# Altium footprint library 453lib.PcbLib: 22 footprints (part 1 of 2)
Each footprint in its own frame and in the unit in brackets; x right, y up, seen from the top. Pads: shape width x height; smd on the part's side, far side on the other; paste and mask are expansions set on the pad; w line width, h text height; cw(c..) or ccw(c..) is an arc to the next point about the centre after c.
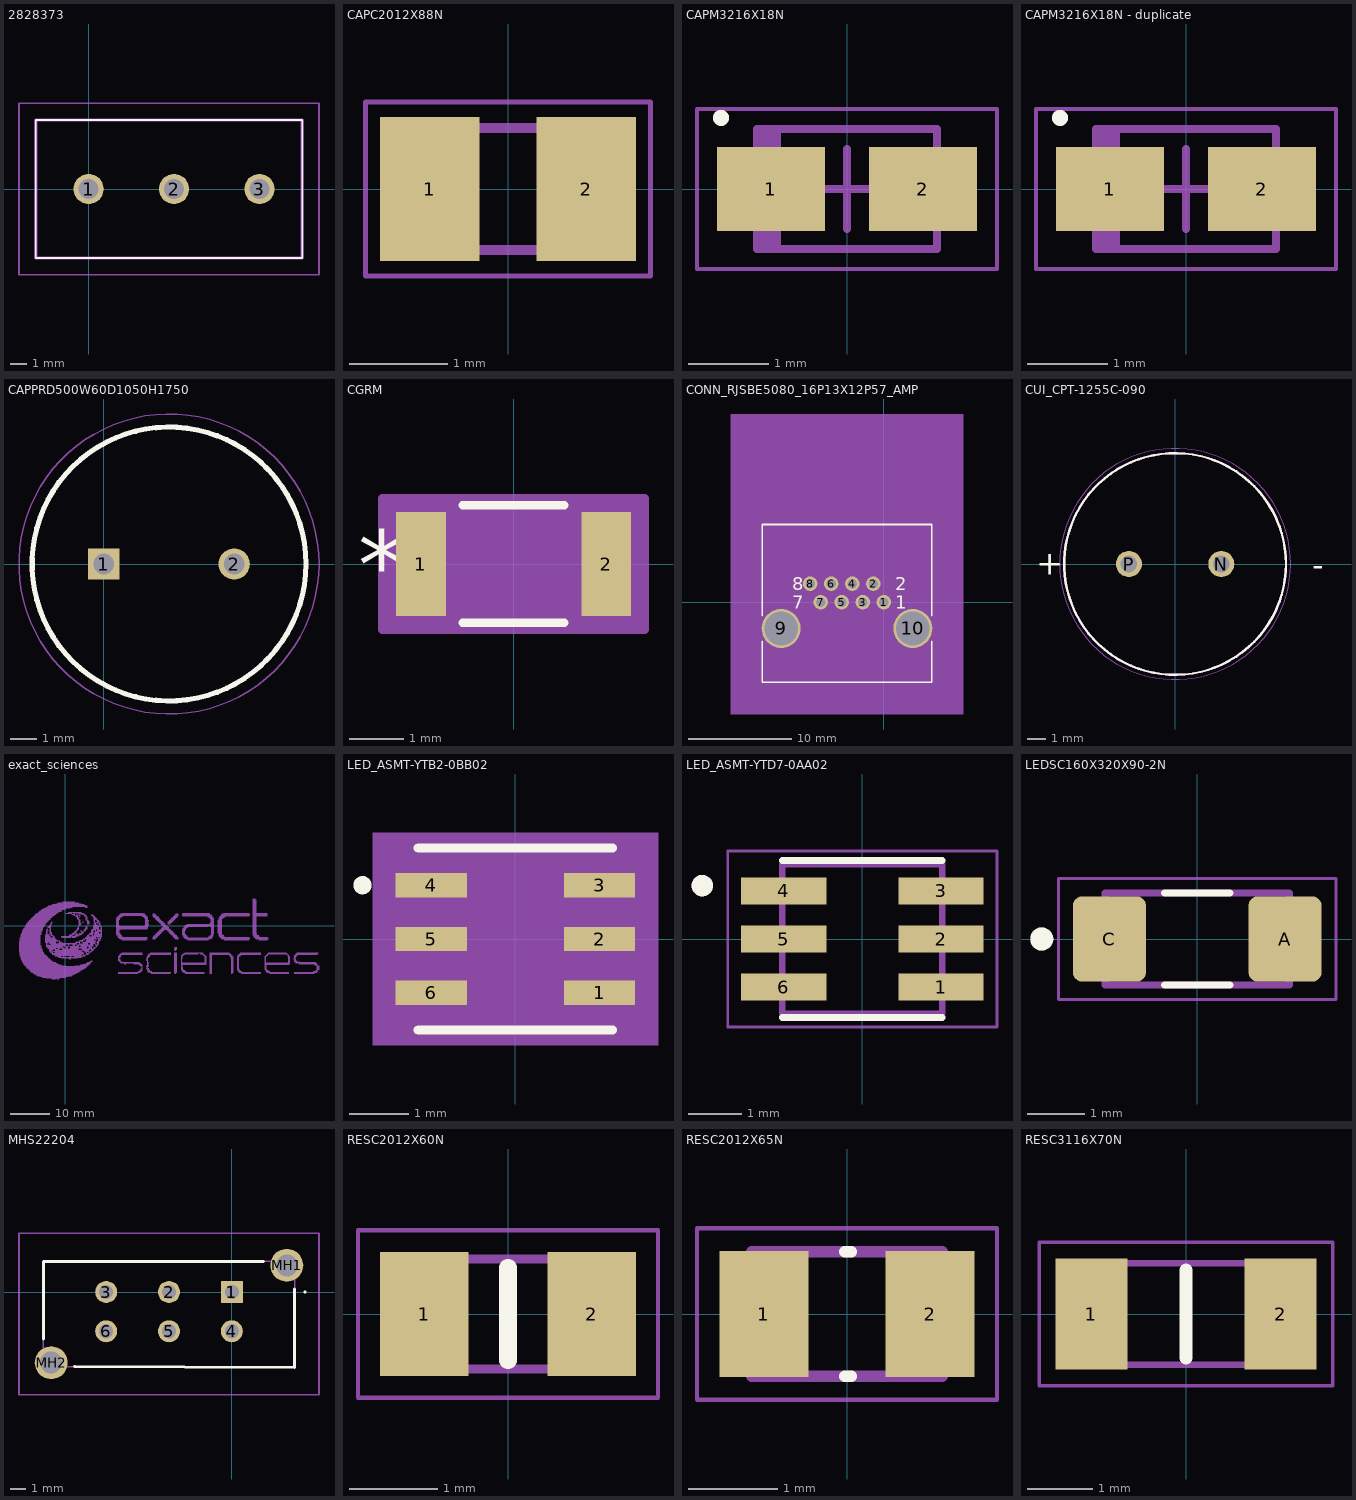
[diagram p0: the footprints below, top view; thin cyan lines are the x and y axes]

## 2828373 [mm] "3-pin connector"
pads (3):
  round 1.8 hole 1.2: 1(0,0) 2(5.08,0) 3(10.16,0)
Top Overlay:
  lines w0.1: -3.14,-4.1 12.7,-4.1 12.7,4.1 -3.14,4.1 -3.14,-4.1
Mechanical 13:
  lines w0.2: -3.14,-4.1 12.7,-4.1 12.7,4.1 -3.14,4.1 -3.14,-4.1
Mechanical 15:
  lines w0.1: -4.14,-5.1 13.7,-5.1 13.7,5.1 -4.14,5.1 -4.14,-5.1
3D body "282837-3.stp": height 9.97, standoff -3.53, extent -3.14,-4.1 12.7,4.1

## CAPC2012X88N [mm] "0.1uf cap"
pads (2):
  rect 1.02x1.47 smd: 1(-0.8,0) 2(0.8,0)
Mechanical 13:
  lines w0.1: -1,-0.625 -1,0.625 1,0.625 1,-0.625 -1,-0.625
Mechanical 15:
  lines w0.05: -1.46,-0.89 -1.46,0.89 1.46,0.89 1.46,-0.89 -1.46,-0.89
3D body "C0805C104K8RACAUTO.stp": height 0.88, standoff 0, extent -1,-0.625 1,0.625

## CAPM3216X18N [mm]
height 1.2
pads (2):
  rect 1.35x1.05 smd: 1(-0.95,0) 2(0.95,0)
Top Overlay:
  circle w0.1: c-1.575,0.889 r0.05
Mechanical 13:
  rectangle: -1.125,-0.75 -0.822,0.75
  lines w0.1: -1.125,-0.75 -1.125,0.75 1.125,0.75 1.125,-0.75 -1.125,-0.75
Mechanical 15:
  lines w0.05: -1.875,-1 -1.875,1 1.875,1 1.875,-1 -1.875,-1
  lines w0.1: -0.5,0 0.5,0 ; 0,-0.5 0,0.5
3D body: height 1.2, standoff 0, extent -1.125,-0.75 1.125,0.75

## CAPM3216X18N - duplicate [mm]
height 1.2
pads (2):
  rect 1.35x1.05 smd: 1(-0.95,0) 2(0.95,0)
Top Overlay:
  circle w0.1: c-1.575,0.889 r0.05
Mechanical 13:
  rectangle: -1.125,-0.75 -0.822,0.75
  lines w0.1: -1.125,-0.75 1.125,-0.75 1.125,0.75 -1.125,0.75 -1.125,-0.75
Mechanical 15:
  lines w0.05: -1.875,-1 1.875,-1 1.875,1 -1.875,1 -1.875,-1
  lines w0.1: -0.5,0 0.5,0 ; 0,-0.5 0,0.5
3D body: height 1.2, standoff 0, extent -1.125,-0.75 1.125,0.75

## CAPPRD500W60D1050H1750 [mm] "100ufelectrolytic cap"
pads (2):
  rect 1.2x1.2 hole 0.8: 1(0,0)
  round 1.2 hole 0.8: 2(5,0)
Top Overlay:
  circle w0.2: c2.5,0 r5.25
Mechanical 13:
  circle w0.1: c2.5,0 r5.25
Mechanical 15:
  circle w0.05: c2.5,0 r5.75
3D body "MAL213668101E3.stp": height 17.5, standoff -10, extent -2.75,-5.247 7.75,5.247

## CGRM [mil] "diode"
pads (2):
  rect 36x75 smd paste+0 mask+0: 1(-67,0) 2(67,0)
Top Overlay:
  lines w6: -36.89,-42.5 36.89,-42.5 ; -36.89,42.5 36.89,42.5
  text "*" at -112.5,-25 h50
Mechanical 5:
  region: 92.5,-45 -92.5,-45 -92.5,45 92.5,45
Mechanical 13:
  lines w1: -65,-18.75 -46.25,-37.5 ; -65,18.75 -46.25,37.5 ; -65,-37.5 -65,37.5 ; -65,-37.5 -77,-37.5 -77,37.5 -65,37.5 ; -65,-37.5 65,-37.5 ; -65,-37.5 -65,37.5 ; -65,37.5 65,37.5 ; 65,-37.5 65,37.5 ; 65,-37.5 77,-37.5 77,37.5 65,37.5 ; 65,-37.5 65,37.5
  text "*" at -67.5,-25 h50
Mechanical 15:
  region: -75,-47.5 -95,-47.5 -95,47.5 -75,47.5 75,47.5 95,47.5 95,-47.5 75,-47.5
  lines w6: -95,-47.5 -95,47.5 -75,47.5 75,47.5 95,47.5 95,-47.5 75,-47.5 -75,-47.5 -95,-47.5
3D body "CGRM.step": height 67.24, standoff 0, extent -77.01,-37.48 77.01,37.48

## CONN_RJSBE5080_16P13X12P57_AMP [mil] "ethernet connector"
pads (10):
  round 55 hole 35 mask+0: 1(0,0) 2(-40,70) 3(-80,0) 4(-120,70) 5(-160,0) 6(-200,70) 7(-240,0) 8(-280,70)
  round 148 hole 128: 9(-390,-100) 10(110,-100)
Top Overlay:
  lines w6: -462.5,-148.27 -462.5,-305 182.5,-305 182.5,-148.27 ; -462.5,-51.73 -462.5,295 182.5,295 182.5,-51.73
  text "1" at 42.5,-25 h50
  text "2" at 42.5,45 h50
  text "7" at -347.5,-25 h50
  text "8" at -347.5,45 h50
Mechanical 5:
  region: -582.5,715 302.5,715 302.5,-425 -582.5,-425
Mechanical 13:
  lines w1: -25,-300 0,-350 25,-300 ; -457.5,-300 177.5,-300 177.5,290 -457.5,290 -457.5,-300
  text "1" at 42.5,-25 h50
  text "2" at 42.5,45 h50
  text "7" at -347.5,-25 h50
  text "8" at -347.5,45 h50
Mechanical 15:
  region: -474,300 -474,-310 194,-310 194,300
  lines w6: -474,-310 194,-310 194,300 -474,300 -474,-310
3D body: height 10, standoff 0, extent 0,0 10,10

## CUI_CPT-1255C-090 [mm]
pads (2):
  round 1.408 hole 0.9: N(2.5,0) P(-2.5,0)
Top Overlay:
  circle w0.127: c0,0 r6
  text "-" at 7.433,-0.656 h1.27
  text "+" at -7.524,-0.572 h1.27
Mechanical 13:
  circle w0.127: c0,0 r6
Mechanical 15:
  circle w0.05: c0,0 r6.25

## exact_sciences [mm] "exact science logo"
Bottom Overlay:
  drawing of 26 lines, arcs and shapes, not listed

## LED_ASMT-YTB2-0BB02 [mil]
pads (6):
  rect 47x16 smd paste+0 mask+0: 1(55.5,-35.43) 2(55.5,0) 3(55.5,35.43) 4(-55.5,35.43) 5(-55.5,0) 6(-55.5,-35.43)
Top Overlay:
  circle w6: c-100.72,35.43 r3
  lines w6: -64,-60 64,-60 ; -64,60 64,60
Top Paste:
  region: 45.5,45.5 -45.5,45.5 -45.5,-45.5 45.5,-45.5
Mechanical 5:
  region: 94,-70 -94,-70 -94,70 94,70
Mechanical 13:
  lines w0: -12,55 ccw(c0,55) 12,55
  lines w1: -59,-55 59,-55 59,55 -59,55 -59,-55 ; -45.5,-45.5 45.5,-45.5 45.5,45.5 -45.5,45.5 -45.5,-45.5
Mechanical 15:
  region: -69,-53.43 -89,-53.43 -89,53.43 -69,53.43 -69,65 69,65 69,53.43 89,53.43 89,-53.43 69,-53.43 69,-65 -69,-65
  lines w6: -89,-53.43 -89,53.43 -69,53.43 -69,65 69,65 69,53.43 89,53.43 89,-53.43 69,-53.43 69,-65 -69,-65 -69,-53.43 -89,-53.43
3D body: height 10, standoff 0, extent 0,0 10,10

## LED_ASMT-YTD7-0AA02 [mm]
pads (6):
  rect 1.6x0.5 smd: 1(1.475,-0.9) 2(1.475,0) 3(1.475,0.9) 4(-1.475,0.9) 5(-1.475,0) 6(-1.475,-0.9)
Top Overlay:
  circle w0.2: c-3,1 r0.1
  lines w0.127: -1.5,-1.47 1.5,-1.47 ; -1.5,1.47 1.5,1.47
Mechanical 13:
  circle w0.2: c-3,1 r0.1
  lines w0.127: -1.5,-1.4 1.5,-1.4 1.5,1.4 -1.5,1.4 -1.5,-1.4
Mechanical 15:
  lines w0.05: -2.525,-1.65 -2.525,1.65 2.525,1.65 2.525,-1.65 -2.525,-1.65

## LEDSC160X320X90-2N [mm] "Red Clear status LED"
pads (2):
  rrect25% 1.27x1.48 smd: A(1.525,0) C(-1.525,0)
Top Overlay:
  circle w0.2: c-2.7,0 r0.1
  lines w0.127: -0.57,-0.8 0.57,-0.8 ; -0.57,0.8 0.57,0.8
Mechanical 13:
  circle w0.2: c-2.7,0 r0.1
  lines w0.127: -1.6,-0.8 -1.6,0.8 1.6,0.8 1.6,-0.8 -1.6,-0.8
Mechanical 15:
  lines w0.05: -2.41,-1.05 2.41,-1.05 2.41,1.05 -2.41,1.05 -2.41,-1.05
3D body "step_temp.STEP": height 0.7, standoff 0, extent -1.6,-0.8 1.6,0.8

## MHS22204 [mm] "switch"
pads (8):
  rect 1.4x1.4 hole 0.9: 1(0,0)
  round 1.4 hole 0.9: 2(-4,0) 3(-8,0) 4(0,-2.5) 5(-4,-2.5) 6(-8,-2.5)
  round 2.1 hole 1.4: MH1(3.5,1.7) MH2(-11.5,-4.5)
Top Overlay:
  lines w0.1: 4.6,0 cw(c4.65,0) 4.7,0 cw(c4.65,0) 4.6,0
  lines w0.2: -12,-3 -12,1.95 2,1.95 ; -10,-4.75 4,-4.8 4,0.2
Mechanical 13:
  lines w0.1: -12,-4.75 4,-4.75 4,1.95 -12,1.95 -12,-4.75
Mechanical 15:
  lines w0.1: -13.55,-6.55 5.55,-6.55 5.55,3.75 -13.55,3.75 -13.55,-6.55
3D body "MHS22204.stp": height 12.1, standoff -5, extent -12.095,-5.099 4.1,2.299

## RESC2012X60N [mm]
pads (2):
  rect 1x1.4 smd: 1(-0.95,0) 2(0.95,0)
Top Overlay:
  lines w0.2: 0,-0.525 0,0.525
Mechanical 13:
  lines w0.1: -1,-0.625 1,-0.625 1,0.625 -1,0.625 -1,-0.625
Mechanical 15:
  lines w0.05: -1.7,-0.95 1.7,-0.95 1.7,0.95 -1.7,0.95 -1.7,-0.95
3D body "CR0805-JW-510ELF.stp": height 0.6, standoff 0, extent -1,-0.625 1,0.625

## RESC2012X65N [mm]
pads (2):
  rect 1x1.42 smd: 1(-0.935,0) 2(0.935,0)
Top Overlay:
  lines w0.127: -0.025,-0.7 0.051,-0.7 ; -0.025,0.7 0.051,0.7
Mechanical 13:
  lines w0.127: -1.07,-0.7 1.07,-0.7 1.07,0.7 -1.07,0.7 -1.07,-0.7
Mechanical 15:
  lines w0.05: -1.685,-0.962 1.685,-0.962 1.685,0.962 -1.685,0.962 -1.685,-0.962

## RESC3116X70N [mm]
pads (2):
  rect 1.1x1.7 smd: 1(-1.45,0) 2(1.45,0)
Top Overlay:
  lines w0.2: 0,-0.675 0,0.675
Mechanical 13:
  lines w0.1: -1.562,-0.775 -1.562,0.775 1.562,0.775 1.562,-0.775 -1.562,-0.775
Mechanical 15:
  lines w0.05: -2.25,-1.1 -2.25,1.1 2.25,1.1 2.25,-1.1 -2.25,-1.1
3D body "ERJ-8GEYJ102V.stp": height 0.7, standoff 0, extent -1.562,-0.775 1.562,0.775